# Altium schematic symbol library FBEAD(600ohm@100Mhz, 400mA, 300mOhm, SMD-0603).SchLib: 1 symbol
Pins are listed as number, name and electrical type; pins without a type are passive.

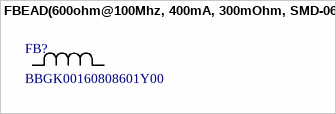
[diagram p0: symbol FBEAD(600ohm@100Mhz, 400mA, 300mOhm, SMD-0603)]

## FBEAD(600ohm@100Mhz, 400mA, 300mOhm, SMD-0603)
designator FB?, comment BBGK00160808601Y00
FBEAD(600ohm@100Mhz, 400mA, 300mOhm, SMD-0603); Manufacturer_Name: Pulse Electronics; Manufacturer_Part_Number: BBGK00160808601Y00; Package: SMD-0603; Datasheet: https://www.yageogroup.com/content/datasheet/asset/file/DATASHEET_BBGK00160808_SERIES; Digikey_Link: https://www.digikey.it/en/products/detail/pulse-electronics/BBGK00160808601Y00/10508715?s=N4IgTCBcDaIEJwOIGkAMqCMA2VAOPOGAmuiALoC%2BQA
footprint SMD-0603
pins: 1, 2